# EAGLE library part ATTINY25/45/85-DIP/SMD (library ATMEL-ATTINY25-45-85)
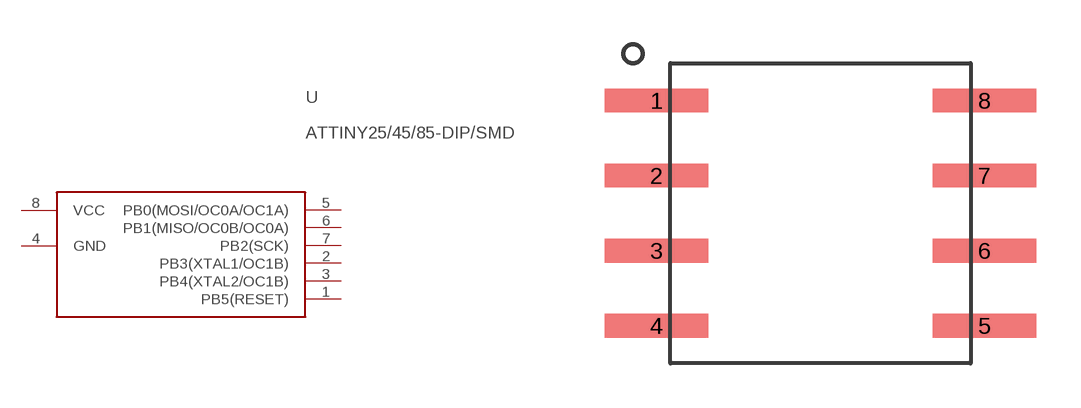
[diagram p1: symbol with the pads of DIP8-SOCKET_SMD; footprint DIP8-SOCKET_SMD]

Designator prefix U

## ATTINY25/45/85-DIP/SMD  [DIP8-SOCKET_SMD]
1  PB5(RESET)
2  PB3(XTAL1/OC1B)
3  PB4(XTAL2/OC1B)
4  GND  pwr
5  PB0(MOSI/OC0A/OC1A)
6  PB1(MISO/OC0B/OC0A)
7  PB2(SCK)
8  VCC  pwr

## Footprint DIP8-SOCKET_SMD (pad centres in mm)
smd 3.5 x 0.8: 1 -5.55,3.81; 2 -5.55,1.27; 3 -5.55,-1.27; 4 -5.55,-3.81; 5 5.55,-3.81; 6 5.55,-1.27; 7 5.55,1.27; 8 5.55,3.81